# EAGLE library part MAX662 (library 000001)
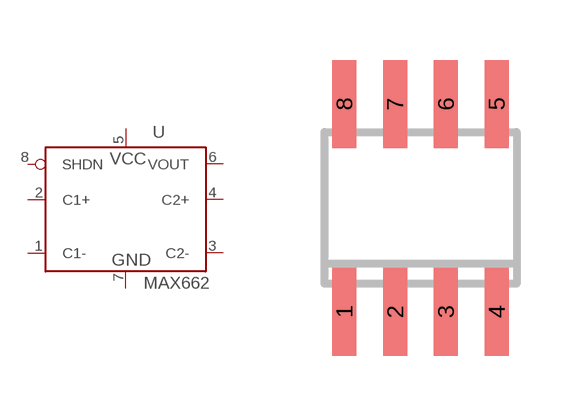
[diagram p42: symbol with the pads of SO-08; footprint SO-08]

Designator prefix -

## MAX662ACSA  [SO-08]
1  C1-  in
2  C1+  in
3  C2-  in
4  C2+
5  VCC  pwr
6  VOUT  in
7  GND  pwr
8  SHDN  in

## Footprint SO-08 (pad centres in mm)
Small Outline Narrow Plastic Gull Wing 150-mil body, package type SN
smd 0.6 x 2.2: 1 -1.905,-2.6; 2 -0.635,-2.6; 3 0.635,-2.6; 4 1.905,-2.6; 5 1.905,2.6; 6 0.635,2.6; 7 -0.635,2.6; 8 -1.905,2.6